# EAGLE library part NTHD3100C (library Discrete)
ON Semiconductor NTHD3100C Power MOSFET 20V, +3.9A, N and P Channel
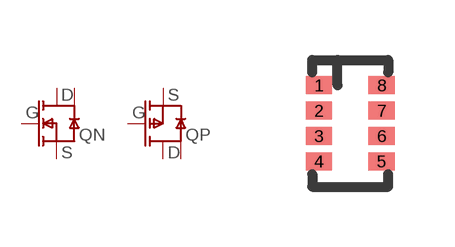
[diagram p6: symbol with the pads of CHIPFET; footprint CHIPFET]

Designator prefix Q; gates N=MOSFET-N2D P=MOSFET-P2D

## NTHD3100C  [CHIPFET]
1  N:S1
2  N:G1
3  P:S
4  P:G
5  P:D2
6  P:D1
7  N:D1A
8  N:D1B

## Footprint CHIPFET (pad centres in mm)
ON Semi ChipFET package
smd 0.66 x 0.45: 1 -0.785,0.952; 2 -0.785,0.317; 3 -0.785,-0.318; 4 -0.785,-0.953; 5 0.786,-0.953; 6 0.786,-0.318; 7 0.786,0.317; 8 0.786,0.952